# EAGLE library part AS4C128M16D3 (library pandaLight)
2Gb (128M x 16 bit) DDR3 Synchronous DRAM (SDRAM)
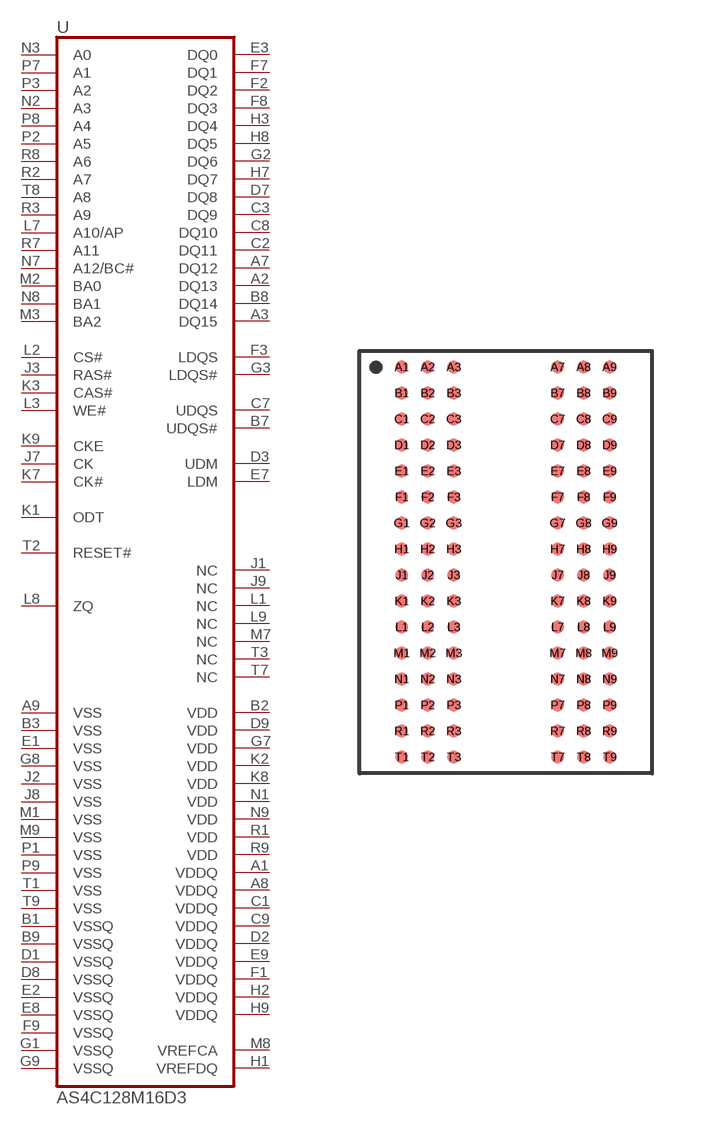
[diagram p7: symbol with the pads of 96-FBGA_13X9; footprint 96-FBGA_13X9]

Designator prefix -

## AS4C128M16D3  [96-FBGA_13X9]
A1  VDDQ  pwr
A2  DQ13
A3  DQ15
A7  DQ12
A8  VDDQ  pwr
A9  VSS  pwr
B1  VSSQ  pwr
B2  VDD  pwr
B3  VSS  pwr
B7  UDQS#
B8  DQ14
B9  VSSQ  pwr
C1  VDDQ  pwr
C2  DQ11
C3  DQ9
C7  UDQS
C8  DQ10
C9  VDDQ  pwr
D1  VSSQ  pwr
D2  VDDQ  pwr
D3  UDM  in
D7  DQ8
D8  VSSQ  pwr
D9  VDD  pwr
E1  VSS  pwr
E2  VSSQ  pwr
E3  DQ0
E7  LDM  in
E8  VSSQ  pwr
E9  VDDQ  pwr
F1  VDDQ  pwr
F2  DQ2
F3  LDQS
F7  DQ1
F8  DQ3
F9  VSSQ  pwr
G1  VSSQ  pwr
G2  DQ6
G3  LDQS#
G7  VDD  pwr
G8  VSS  pwr
G9  VSSQ  pwr
H1  VREFDQ  pwr
H2  VDDQ  pwr
H3  DQ4
H7  DQ7
H8  DQ5
H9  VDDQ  pwr
J1  NC  nc
J2  VSS  pwr
J3  RAS#  in
J7  CK  in
J8  VSS  pwr
J9  NC  nc
K1  ODT  in
K2  VDD  pwr
K3  CAS#  in
K7  CK#  in
K8  VDD  pwr
K9  CKE  in
L1  NC  nc
L2  CS#  in
L3  WE#  in
L7  A10/AP  in
L8  ZQ  in
L9  NC  nc
M1  VSS  pwr
M2  BA0  in
M3  BA2  in
M7  NC  nc
M8  VREFCA  pwr
M9  VSS  pwr
N1  VDD  pwr
N2  A3  in
N3  A0  in
N7  A12/BC#  in
N8  BA1  in
N9  VDD  pwr
P1  VSS  pwr
P2  A5  in
P3  A2  in
P7  A1  in
P8  A4  in
P9  VSS  pwr
R1  VDD  pwr
R2  A7  in
R3  A9  in
R7  A11  in
R8  A6  in
R9  VDD  pwr
T1  VSS  pwr
T2  RESET#  in
T3  NC  nc
T7  NC  nc
T8  A8  in
T9  VSS  pwr

## Footprint 96-FBGA_13X9 (pad centres in mm)
smd 0.4 x 0.4: A1 -3.2,6; A2 -2.4,6; A3 -1.6,6; A7 1.6,6; A8 2.4,6; A9 3.2,6; B1 -3.2,5.2; B2 -2.4,5.2; B3 -1.6,5.2; B7 1.6,5.2; B8 2.4,5.2; B9 3.2,5.2; C1 -3.2,4.4; C2 -2.4,4.4; C3 -1.6,4.4; C7 1.6,4.4; C8 2.4,4.4; C9 3.2,4.4; D1 -3.2,3.6; D2 -2.4,3.6; D3 -1.6,3.6; D7 1.6,3.6; D8 2.4,3.6; D9 3.2,3.6; E1 -3.2,2.8; E2 -2.4,2.8; E3 -1.6,2.8; E7 1.6,2.8; E8 2.4,2.8; E9 3.2,2.8; F1 -3.2,2; F2 -2.4,2; F3 -1.6,2; F7 1.6,2; F8 2.4,2; F9 3.2,2; G1 -3.2,1.2; G2 -2.4,1.2; G3 -1.6,1.2; G7 1.6,1.2; G8 2.4,1.2; G9 3.2,1.2; H1 -3.2,0.4; H2 -2.4,0.4; H3 -1.6,0.4; H7 1.6,0.4; H8 2.4,0.4; H9 3.2,0.4; J1 -3.2,-0.4; J2 -2.4,-0.4; J3 -1.6,-0.4; J7 1.6,-0.4; J8 2.4,-0.4; J9 3.2,-0.4; K1 -3.2,-1.2; K2 -2.4,-1.2; K3 -1.6,-1.2; K7 1.6,-1.2; K8 2.4,-1.2; K9 3.2,-1.2; L1 -3.2,-2; L2 -2.4,-2; L3 -1.6,-2; L7 1.6,-2; L8 2.4,-2; L9 3.2,-2; M1 -3.2,-2.8; M2 -2.4,-2.8; M3 -1.6,-2.8; M7 1.6,-2.8; M8 2.4,-2.8; M9 3.2,-2.8; N1 -3.2,-3.6; N2 -2.4,-3.6; N3 -1.6,-3.6; N7 1.6,-3.6; N8 2.4,-3.6; N9 3.2,-3.6; P1 -3.2,-4.4; P2 -2.4,-4.4; P3 -1.6,-4.4; P7 1.6,-4.4; P8 2.4,-4.4; P9 3.2,-4.4; R1 -3.2,-5.2; R2 -2.4,-5.2; R3 -1.6,-5.2; R7 1.6,-5.2; R8 2.4,-5.2; R9 3.2,-5.2; T1 -3.2,-6; T2 -2.4,-6; T3 -1.6,-6; T7 1.6,-6; T8 2.4,-6; T9 3.2,-6